# Altium footprint library components.PcbLib: 15 footprints
Each footprint in its own frame and in the unit in brackets; x right, y up, seen from the top. Pads: shape width x height; smd on the part's side, far side on the other; paste and mask are expansions set on the pad; w line width, h text height; cw(c..) or ccw(c..) is an arc to the next point about the centre after c.
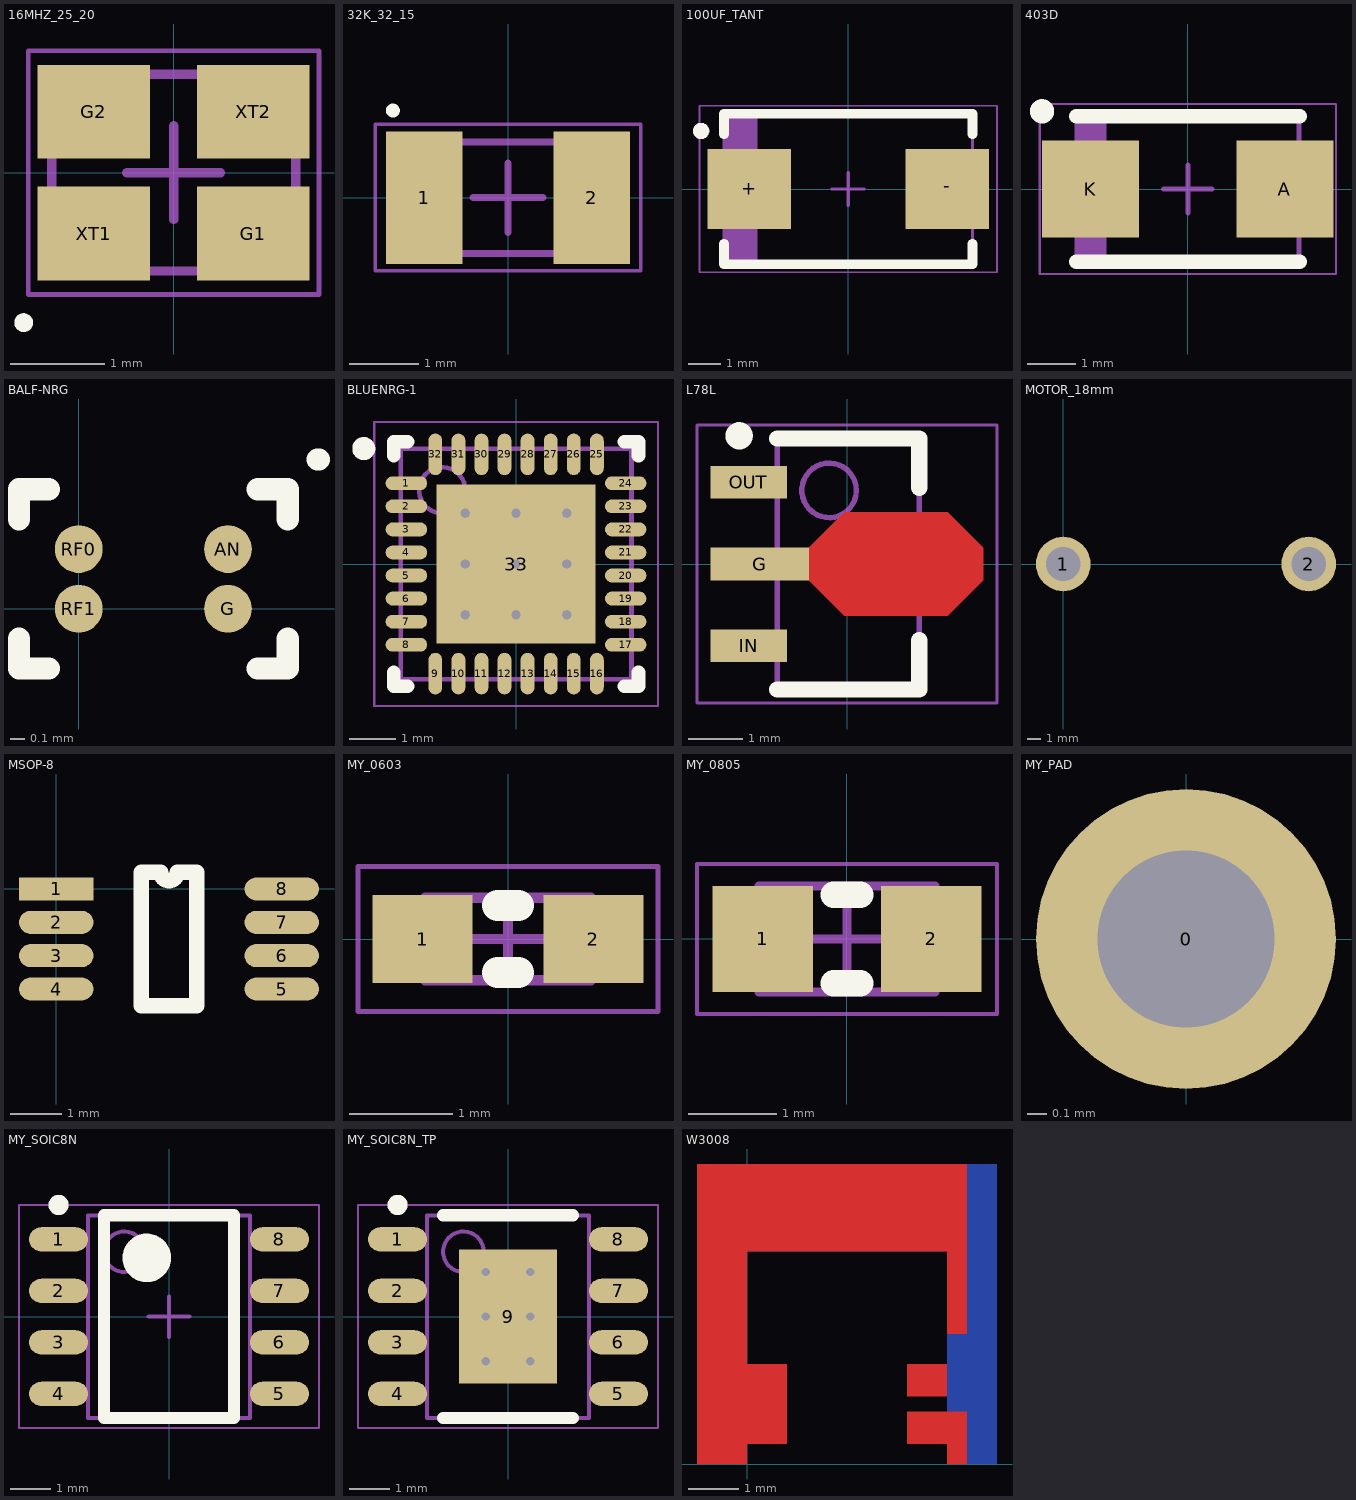
[diagram p0: the footprints below, top view; thin cyan lines are the x and y axes]

## 16MHZ_25_20 [mm] "DFN, 4-Leads, Body 2.00x2.50mm, Pitch 1.70mm, IPC Medium Density"
height 0.5
pads (4):
  rect 1.2x1 smd: G1(0.85,-0.65) G2(-0.85,0.65) XT1(-0.85,-0.65) XT2(0.85,0.65)
Top Overlay:
  circle w0.1: c-1.6,-1.6 r0.05
Mechanical 13:
  lines w0.1: -1.3,-1.05 -1.3,1.05 1.3,1.05 1.3,-1.05 -1.3,-1.05
Mechanical 15:
  lines w0.05: -1.55,-1.3 -1.55,1.3 1.55,1.3 1.55,-1.3 -1.55,-1.3
  lines w0.1: -0.5,0 0.5,0 ; 0,-0.5 0,0.5
3D body: height 0.5, standoff 0.01, extent -1.3,-1.05 1.3,1.05

## 32K_32_15 [mm] "DFN, 2-Leads, Body 1.50x3.20mm, Pitch 2.40mm, IPC Medium Density"
height 0.5
pads (2):
  rect 1.1x1.9 smd: 1(-1.2,0) 2(1.2,0)
Top Overlay:
  circle w0.1: c-1.65,1.25 r0.05
Mechanical 13:
  lines w0.1: -1.65,-0.8 1.65,-0.8 1.65,0.8 -1.65,0.8 -1.65,-0.8
Mechanical 15:
  lines w0.05: -1.9,-1.05 1.9,-1.05 1.9,1.05 -1.9,1.05 -1.9,-1.05
  lines w0.1: -0.5,0 0.5,0 ; 0,-0.5 0,0.5
3D body: height 0.5, standoff 0.01, extent -1.65,-0.8 1.65,0.8

## 100UF_TANT [mm]
height 2.8
pads (2):
  rect 2.55x2.45 smd: +(-3.025,0) -(3.025,0)
Top Overlay:
  circle w0.25: c-4.5,1.775 r0.125
  lines w0.3: -3.8,-1.675 -3.8,-2.3 3.8,-2.3 3.8,-1.675 ; -3.8,1.675 -3.8,2.3 3.8,2.3 3.8,1.675
Mechanical 13:
  rectangle: -3.8,-2.3 -2.778,2.3
  lines w0.1: -3.8,-2.3 3.8,-2.3 3.8,2.3 -3.8,2.3 -3.8,-2.3
Mechanical 15:
  lines w0.05: -4.55,-2.55 4.55,-2.55 4.55,2.55 -4.55,2.55 -4.55,-2.55
  lines w0.1: -0.5,0 0.5,0 ; 0,-0.5 0,0.5
3D body: height 2.8, standoff 0, extent -3.8,-2.3 3.8,2.3

## 403D [mm]
height 2.1
pads (2):
  rect 2x2 smd: A(2,0) K(-2,0)
Top Overlay:
  circle w0.25: c-3,1.6 r0.125
  lines w0.3: -2.3,-1.5 2.3,-1.5 ; -2.3,1.5 2.3,1.5 ; -2.3,1.5 2.3,1.5 ; -2.3,1.5 2.3,1.5
Mechanical 13:
  rectangle: -2.285,-1.46 -1.67,1.46
  lines w0.1: -2.285,-1.46 2.285,-1.46 2.285,1.46 -2.285,1.46 -2.285,-1.46
Mechanical 15:
  lines w0.05: -3.05,-1.75 3.05,-1.75 3.05,1.75 -3.05,1.75 -3.05,-1.75
  lines w0.1: -0.5,0 0.5,0 ; 0,-0.5 0,0.5
3D body: height 2.1, standoff 0, extent -2.285,-1.46 2.285,1.46

## BALF-NRG [mm]
pads (4):
  round 0.32 smd paste+0.22 mask+0.22: AN(1,0.4) G(1,0) RF0(0,0.4) RF1(0,0)
Top Overlay:
  lines w0.15: -0.4,-0.2 -0.4,-0.4 -0.2,-0.4 ; -0.4,0.6 -0.4,0.8 -0.2,0.8 ; 1.2,-0.4 1.4,-0.4 1.4,-0.2 ; 1.2,0.8 1.4,0.8 1.4,0.6 ; 1.6,1 1.61,1

## BLUENRG-1 [mm] "QFN, 32-Leads, Body 5.00x5.00mm, Pitch 0.50mm, Thermal Pad 3.45x3.45mm, IPC Medium Density"
height 0.8
pads (33):
  oval 0.9x0.3 smd: 1(-2.375,1.75) 2(-2.375,1.25) 3(-2.375,0.75) 4(-2.375,0.25) 5(-2.375,-0.25) 6(-2.375,-0.75) 7(-2.375,-1.25) 8(-2.375,-1.75) 17(2.375,-1.75) 18(2.375,-1.25) 19(2.375,-0.75) 20(2.375,-0.25) 21(2.375,0.25) 22(2.375,0.75) 23(2.375,1.25) 24(2.375,1.75)
  oval 0.3x0.9 smd: 9(-1.75,-2.375) 10(-1.25,-2.375) 11(-0.75,-2.375) 12(-0.25,-2.375) 13(0.25,-2.375) 14(0.75,-2.375) 15(1.25,-2.375) 16(1.75,-2.375) 25(1.75,2.375) 26(1.25,2.375) 27(0.75,2.375) 28(0.25,2.375) 29(-0.25,2.375) 30(-0.75,2.375) 31(-1.25,2.375) 32(-1.75,2.375)
  rect 3.45x3.45 smd: 33(0,0)
via -1.1,1.1 diameter 0.5 hole 0.2
via 0,1.1 diameter 0.5 hole 0.2
via 1.1,1.1 diameter 0.5 hole 0.2
via -1.1,0 diameter 0.5 hole 0.2
via 0,0 diameter 0.5 hole 0.2
via 1.1,0 diameter 0.5 hole 0.2
via -1.1,-1.1 diameter 0.5 hole 0.2
via 0,-1.1 diameter 0.5 hole 0.2
via 1.1,-1.1 diameter 0.5 hole 0.2
Top Overlay:
  circle w0.25: c-3.3,2.5 r0.125
  lines w0.3: -2.65,-2.35 -2.65,-2.65 -2.35,-2.65 ; -2.65,2.35 -2.65,2.65 -2.35,2.65 ; 2.35,-2.65 2.65,-2.65 2.65,-2.35 ; 2.35,2.65 2.65,2.65 2.65,2.35
Mechanical 13:
  circle w0.1: c-1.6,1.6 r0.5
  lines w0.1: -2.5,-2.5 -2.5,2.5 2.5,2.5 2.5,-2.5 -2.5,-2.5
Mechanical 15:
  lines w0.05: -3.075,-3.075 -3.075,3.075 3.075,3.075 3.075,-3.075 -3.075,-3.075
  lines w0.1: -0.5,0 0.5,0 ; 0,-0.5 0,0.5
3D body: height 0.8, standoff 0.01, extent -2.5,-2.5 2.5,2.5

## L78L [mm] "SOT89, 3-Leads, Body 4.50x2.45mm, Pitch 1.50mm, Lead Span 4.1mm, IPC Medium Density"
height 1.6
pads (3):
  rect 1.8x0.6 smd: G(-1.6,0)
  rect 1.4x0.6 smd: IN(-1.8,-1.5) OUT(-1.8,1.5)
Top Layer:
  region: -0.7,0.3 -0.05,0.95 1.85,0.95 2.5,0.3 2.5,-0.3 1.85,-0.95 -0.05,-0.95 -0.7,-0.3
Top Overlay:
  circle w0.25: c-1.977,2.35 r0.125
  lines w0.3: -1.278,-2.3 1.322,-2.3 1.322,-1.4 ; -1.278,2.3 1.322,2.3 1.322,1.4
Mechanical 13:
  circle w0.1: c-0.327,1.35 r0.5
  lines w0.1: -1.278,-2.3 -1.278,2.3 1.322,2.3 1.322,-2.3 -1.278,-2.3
Mechanical 15:
  lines w0.05: -2.75,-2.55 -2.75,2.55 2.75,2.55 2.75,-2.55 -2.75,-2.55
  lines w0.1: -0.477,0 0.523,0 ; 0.022,-0.5 0.022,0.5
3D body: height 1.6, standoff 0, extent -1.278,-2.3 1.322,2.3

## MOTOR_18mm [mm]
pads (2):
  round 4 hole 2.5: 1(0,0) 2(18,0)

## MSOP-8 [mm]
pads (8):
  rect 1.45x0.45 smd: 1(0,0)
  oval 1.45x0.45 smd: 2(0,-0.65) 3(0,-1.3) 4(0,-1.95) 5(4.4,-1.95) 6(4.4,-1.3) 7(4.4,-0.65) 8(4.4,0)
Top Overlay:
  lines w0.3: 1.66,-2.275 2.74,-2.275 2.74,0.325 2.362,0.325 cw(c2.2,0.325) 2.037,0.325 1.66,0.325 1.66,-2.275

## MY_0603 [mm] "0603 without silkscreen issues"
height 3
pads (2):
  rect 0.965x0.85 smd: 1(-0.825,0) 2(0.825,0)
Top Overlay:
  lines w0.3: -0.1,-0.325 0.1,-0.325 ; -0.1,0.325 0.1,0.325
Mechanical 13:
  lines w0.1: -0.8,-0.4 0.8,-0.4 0.8,0.4 -0.8,0.4 -0.8,-0.4
Mechanical 15:
  lines w0.05: -1.45,-0.7 1.45,-0.7 1.45,0.7 -1.45,0.7 -1.45,-0.7
  lines w0.1: -0.4,0 0.4,0 ; 0,-0.4 0,0.4
3D body: height 3, standoff 0, extent 0.5,-0.4 0.8,0.4
3D body: height 3, standoff 0, extent -0.8,-0.4 -0.5,0.4
3D body: height 3, standoff 0, extent -0.5,-0.4 0.5,0.4

## MY_0805 [mm] "0805 without silkscreen issues"
height 4
pads (2):
  rect 1.14x1.2 smd: 1(-0.955,0) 2(0.955,0)
Top Overlay:
  lines w0.3: -0.15,-0.5 0.15,-0.5 ; -0.15,0.5 0.15,0.5
Mechanical 13:
  lines w0.1: -1,-0.6 -1,0.6 1,0.6 1,-0.6 -1,-0.6
Mechanical 15:
  lines w0.05: -1.7,-0.85 -1.7,0.85 1.7,0.85 1.7,-0.85 -1.7,-0.85
  lines w0.1: -0.5,0 0.5,0 ; 0,-0.5 0,0.5
3D body: height 4, standoff 0, extent -0.6,-0.6 0.6,0.6
3D body: height 4, standoff 0, extent -1,-0.6 -0.6,0.6
3D body: height 4, standoff 0, extent 0.6,-0.6 1,0.6

## MY_PAD [mil]
pads (1):
  round 60 hole 35.43: 0(0,0)

## MY_SOIC8N [mm]
height 2.65
pads (8):
  oval 1.45x0.6 smd: 1(-2.725,1.905) 2(-2.725,0.635) 3(-2.725,-0.635) 4(-2.725,-1.905) 5(2.725,-1.905) 6(2.725,-0.635) 7(2.725,0.635) 8(2.725,1.905)
Top Overlay:
  circle w0.25: c-2.725,2.755 r0.125
  circle w0.6: c-0.55,1.45 r0.3
  lines w0.3: -1.6,-2.5 -1.6,2.5 1.6,2.5 1.6,-2.5 -1.6,-2.5
Mechanical 13:
  circle w0.1: c-1.1,1.6 r0.5
  lines w0.1: -2,-2.5 -2,2.5 2,2.5 2,-2.5 -2,-2.5
Mechanical 15:
  lines w0.05: -3.7,-2.75 -3.7,2.75 3.7,2.75 3.7,-2.75 -3.7,-2.75
  lines w0.1: -0.5,0 0.5,0 ; 0,-0.5 0,0.5
3D body: height 2.65, standoff 0.1, extent -2,-2.5 2,2.5

## MY_SOIC8N_TP [mm] "SOIC, 8-Leads, Body 4.90x3.90mm, Pitch 1.27mm, Thermal Pad 3.30x2.41mm, IPC Medium Density"
height 2.65
pads (9):
  oval 1.45x0.6 smd: 1(-2.725,1.905) 2(-2.725,0.635) 3(-2.725,-0.635) 4(-2.725,-1.905) 5(2.725,-1.905) 6(2.725,-0.635) 7(2.725,0.635) 8(2.725,1.905)
  rect 2.41x3.3 smd: 9(0,0)
via 0.55,-1.1 diameter 0.5 hole 0.2
via -0.55,-1.1 diameter 0.5 hole 0.2
via 0.55,0 diameter 0.5 hole 0.2
via -0.55,0 diameter 0.5 hole 0.2
via 0.55,1.1 diameter 0.5 hole 0.2
via -0.55,1.1 diameter 0.5 hole 0.2
Top Overlay:
  circle w0.25: c-2.725,2.755 r0.125
  lines w0.3: -1.6,-2.5 1.6,-2.5 ; -1.6,2.5 1.6,2.5
Mechanical 13:
  circle w0.1: c-1.1,1.6 r0.5
  lines w0.1: -2,-2.5 2,-2.5 2,2.5 -2,2.5 -2,-2.5
Mechanical 15:
  lines w0.05: -3.7,-2.75 3.7,-2.75 3.7,2.75 -3.7,2.75 -3.7,-2.75
  lines w0.1: -0.5,0 0.5,0 ; 0,-0.5 0,0.5
3D body: height 2.65, standoff 0.1, extent -2,-2.5 2,2.5

## W3008 [mm]
Top Layer:
  rectangle: -1,0 0,6
  rectangle: 0,0.4 0.8,2
  rectangle: 3.2,0.4 4,1.05
  rectangle: 3.2,1.35 4,2
  rectangle: 0,4.25 4.2,6
  rectangle: 4,2.6 4.4,6
  rectangle: 4,0 4.4,1.05
Bottom Layer:
  rectangle: -1,0 0,6
  rectangle: 4,0 5,6
  rectangle: -1,4.25 5,6
Top Solder:
  rectangle: 0,0 4,4.25